# Altium integrated library Microcontroller.IntLib: 2 symbols
Pins are listed as number, name and electrical type; pins without a type are passive.

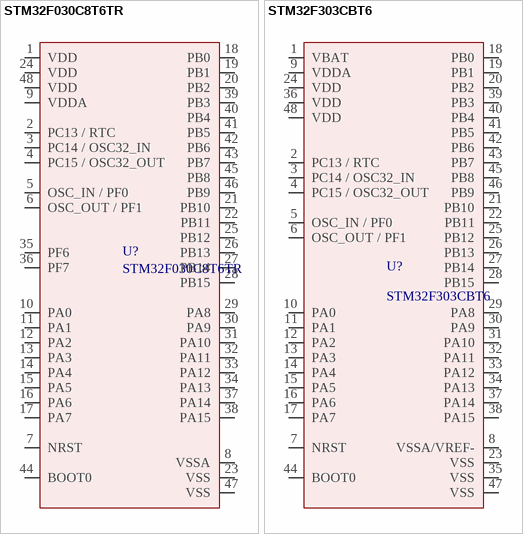
[diagram p0: symbols STM32F030C8T6TR to STM32F303CBT6]

## STM32F030C8T6TR
designator U?
IC MCU 32BIT 64KB FLASH 48LQFP; Manufacturer: STMicroelectronics; RAM Size: 8KB; Max Power Dissipation: 364mW; Interface: I2C,SPI,UART,USART; Number of I/Os: 39; Number of Timers/Counters: 7; Min Supply Voltage: 2.4V; Max Supply Voltage: 3.6V; Frequency: 48MHz; Oscillator Type: Internal; Data Bus Width: 32b; Number of ADC Channels: 12; Number of SPI Channels: 2; Number of PWM Channels: 6; Watchdog Timer: Yes; Peripherals: POR,PWM,WDT,DMA; Core Architecture: ARM; Designed: Ferdi; Supplier 1: Digi-Key; Manufacturer Part Number: STM32F030C8T6TR; RoHS: Yes; Category: Microcontrollers; Stock 1: 31508; Pricing 1: 1=2,74, 10=2,46, 25=2,3208, 100=1,9773, 250=1,8566, 500=1,6245, 1000=1,34602 (USD); Mount: Surface Mount; Case/Package: LQFP; Number of Pins: 48; Weight: 0.006409oz; Min Operating Temperature: -40°C; Max Operating Temperature: 85°C; Packaging: Tape and Reel; Number of Programmable I/O: 39; Max Frequency: 48MHz; Number of I2C Channels: 2; Memory Type: FLASH; Memory Size: 64KB; Package Quantity: 2400; Series: STM32F0; Length: 7.2mm; Width: 7.2mm; Height: 1.45mm; Radiation Hardening: No; Reach SVHC Compliant: No; Lead Free: Lead Free; RoHS Compliant: Yes; ComponentLink1URL: http://www.farnell.com/datasheets/2554494.pdf?src-supplier=Farnell; ComponentLink1Description: http://www.farnell.com/datasheets/2554494.pdf?src-supplier=Farnell; ComponentLink2URL: http://www.farnell.com/datasheets/1792126.pdf?src-supplier=Element14; ComponentLink2Description: http://www.farnell.com/datasheets/1792126.pdf?src-supplier=Element14; Supplier Part Number 1: 497-17331-1-ND
footprint LQFP 48
pins: 1 VDD, 2 PC13 / RTC, 3 PC14 / OSC32_IN, 4 PC15 / OSC32_OUT, 5 OSC_IN / PF0, 6 OSC_OUT / PF1, 7 NRST, 8 VSSA, 9 VDDA, 10 PA0, 11 PA1, 12 PA2, 13 PA3, 14 PA4, 15 PA5, 16 PA6, 17 PA7, 18 PB0, 19 PB1, 20 PB2, 21 PB10, 22 PB11, 23 VSS, 24 VDD, 25 PB12, 26 PB13, 27 PB14, 28 PB15, 29 PA8, 30 PA9, 31 PA10, 32 PA11, 33 PA12, 34 PA13, 35 PF6, 36 PF7, 37 PA14, 38 PA15, 39 PB3, 40 PB4, 41 PB5, 42 PB6, 43 PB7, 44 BOOT0, 45 PB8, 46 PB9, 47 VSS, 48 VDD

## STM32F303CBT6
designator U?
MCU 32-bit STM32F ARM Cortex M4 RISC 128KB Flash 2.5V/3.3V 48-Pin LQFP Tray; Manufacturer: STMicroelectronics; Number of Timers/Counters: 8; RAM Size: 32KB; Interface: I2C,SPI,USB,IrDA,UART,USART,CAN; Number of I/Os: 37; Min Supply Voltage: 2V; Data Bus Width: 32b; Oscillator Type: Internal; Max Frequency: 72MHz; Number of ADC Channels: 1; Peripherals: POR,PWM,WDT,DMA; Nominal Supply Current: 1.5uA; Number of A/D Converters: 4NUMBER; Number of Channels: 15NUMBER; Number of D/A Converters: 2NUMBER; Operating Supply Voltage: 3.6V; Supplier 1: Digi-Key; Manufacturer Part Number: STM32F303CBT6; RoHS: Yes; Category: Microcontrollers; Stock 1: 8261; Pricing 1: 1=6,62, 10=5,977, 25=5,6984, 80=4,948, 250=4,72564, 500=4,30866, 1000=3,75271, 2500=3,61372 (USD); Case/Package: LQFP; Number of Pins: 48; Weight: 0.006409oz; Min Operating Temperature: -40°C; Max Operating Temperature: 85°C; Package Quantity: 1500; Packaging: Tray; Memory Type: FLASH; Memory Size: 128KB; Core Architecture: ARM; Series: STM32F3; Length: 7mm; RoHS Compliant: Yes; Lead Free: Lead Free; ComponentLink1URL: https://datasheet.ciiva.com/22692/1831499-22692000.pdf?src-supplier=Element14; ComponentLink1Description: https://datasheet.ciiva.com/22692/1831499-22692000.pdf?src-supplier=Element14; ComponentLink2URL: https://datasheet.ciiva.com/24182/dm00058181-24182821.pdf?src-supplier=Future+Electronics; ComponentLink2Description: https://datasheet.ciiva.com/24182/dm00058181-24182821.pdf?src-supplier=Future+Electronics; Supplier Part Number 1: 497-17421-ND; Digikey: Ferdi
footprint LQFP 48
pins: 1 VBAT, 2 PC13 / RTC, 3 PC14 / OSC32_IN, 4 PC15 / OSC32_OUT, 5 OSC_IN / PF0, 6 OSC_OUT / PF1, 7 NRST, 8 VSSA/VREF-, 9 VDDA, 10 PA0, 11 PA1, 12 PA2, 13 PA3, 14 PA4, 15 PA5, 16 PA6, 17 PA7, 18 PB0, 19 PB1, 20 PB2, 21 PB10, 22 PB11, 23 VSS, 24 VDD, 25 PB12, 26 PB13, 27 PB14, 28 PB15, 29 PA8, 30 PA9, 31 PA10, 32 PA11, 33 PA12, 34 PA13, 35 VSS, 36 VDD, 37 PA14, 38 PA15, 39 PB3, 40 PB4, 41 PB5, 42 PB6, 43 PB7, 44 BOOT0, 45 PB8, 46 PB9, 47 VSS, 48 VDD